# Altium integrated library 2N7002K.IntLib: 1 symbol
Pins are listed as number, name and electrical type; pins without a type are passive.

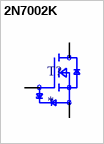
[diagram p0: symbol 2N7002K]

## 2N7002K
designator T?
N-Channel 60 V 320mA (Ta) 300mW (Ta) Surface Mount SOT-23-3 (TO-236); MF: onsemi; MP: 2N7002K; SnapEDA_Link: https://www.snapeda.com/parts/2N7002K/Onsemi/view-part/?ref=snap; Package: SOT-23-3 ON Semiconductor; Value: *; Check_prices: https://www.snapeda.com/parts/2N7002K/Onsemi/view-part/?ref=eda
footprint SOT23
pins: 1 G, 2 S, 3 D